# Altium schematic symbol library SCH - DRIVER - RAA2261104GNP#HA0.Schlib: 1 symbol
Pins are listed as number, name and electrical type; pins without a type are passive.

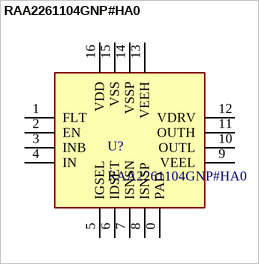
[diagram p0: symbol RAA2261104GNP#HA0]

## RAA2261104GNP#HA0
designator U?
Low -Side GaN FET-Driver, 6,5V - 18V
pins: 0 PAD, 1 FLT, 2 EN, 3 INB, 4 IN, 5 IGSEL, 6 IDSET, 7 ISNSN, 8 ISNSP, 9 VEEL, 10 OUTL, 11 OUTH, 12 VDRV, 13 VEEH, 14 VSSP, 15 VSS, 16 VDD